# Altium integrated library PMIC-MIC5205-3.3YMSTR_SOT23-5_.IntLib: 1 symbol
Pins are listed as number, name and electrical type; pins without a type are passive.

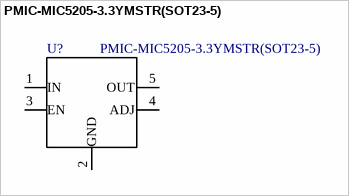
[diagram p0: symbol PMIC-MIC5205-3.3YMSTR(SOT23-5)]

## PMIC-MIC5205-3.3YMSTR(SOT23-5)
designator U?
MIC5205 Series 16 V 150 mA Surface Mount Low-Noise LDO Regulator - SOT-23-5; MP: MIC5205-3.3YM5 TR; MF: Micrel; SnapEDA_Link: https://www.snapeda.com/parts/MIC5205-3.3YM5%20TR/Micrel/view-part/?ref=snap; Package: SOT-23-5 Micrel; Availability: Good; Price: 0.31 USD; Value: *
footprint SOT-23-5
pins: 1 IN (io), 2 GND (io), 3 EN (io), 4 ADJ (io), 5 OUT (io)